# Altium schematic symbol library 7460305.SchLib: 1 symbol
Pins are listed as number, name and electrical type; pins without a type are passive.

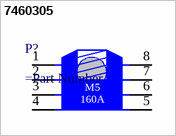
[diagram p0: symbol 7460305]

## 7460305
designator P?
=Description
pins: 1, 2, 3, 4, 5, 6, 7, 8
text: M5; 160A